# Altium schematic symbol library MCU_Sch.SchLib: 2 symbols
Pins are listed as number, name and electrical type; pins without a type are passive.

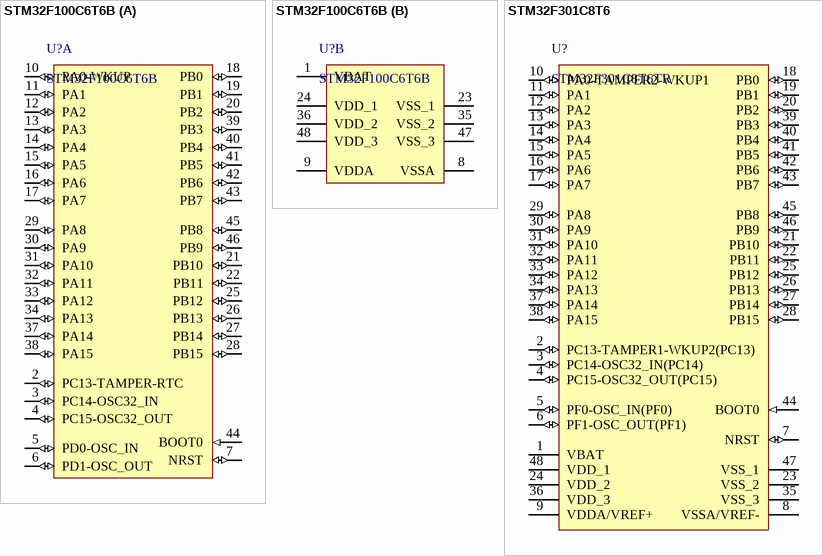
[diagram p0: symbols STM32F100C6T6B to STM32F301C8T6]

## STM32F100C6T6B
designator U?
ARM Cortex-M3 32-bit MCU, 32 KB Flash, 4 KB Internal RAM, 37 I/Os, 48-pin LQFP, -40 to 85 degC, Tray; D/A Converter: 2x12-bit (2 Channel); FLASH Size (Prog) (kB): 32; Internal RAM Size (kB): 4; Operating Frequency(F) (Processor speed) (MHz): 24; A/D Converter: 1x12-bit (10 Channel); Supply Voltage(Vcc) min (V): 2; I/Os (High Current): 37; ComponentLink3Description: Package Specification; PackageReference: LQFP48; ComponentLink2Description: Datasheet; ComponentLink1URL: http://www.st.com/web/en/home.html; ComponentLink3URL: http://www.st.com/st-web-ui/static/active/en/resource/technical/document/datasheet/DM00058181.pdf; Packing: Tray; ComponentLink2URL: http://www.st.com/st-web-ui/static/active/en/resource/technical/document/datasheet/CD00251732.pdf; Core: ARM Cortex-M3; ComponentLink1Description: Manufacturer URL; PackageDescription: 48-Pin Low Profile Quad Flat Package, 7 x 7 mm Body, 0.5 mm Pitch; Mounting Technology: Surface Mount; PartNumber: STM32F100C6T6B; PackageVersion: Rev. 6, 06/2013; DatasheetVersion: Rev. 7
footprint STM-LQFP48_H (QFP, 48-Leads, Body 7x7mm, Pitch 0.5mm, IPC Low Density)
footprint STM-LQFP48_L (QFP, 48-Leads, Body 7x7mm, Pitch 0.5mm, IPC High Density)
footprint STM-LQFP48_M (QFP, 48-Leads, Body 7x7mm, Pitch 0.5mm, IPC Medium Density)
footprint STM-LQFP48_N (QFP, 48-Leads, Body 7x7mm, Pitch 0.5mm, IPC Medium Density)
part A pins: 2 PC13-TAMPER-RTC (io) "PC13-TAMPER-RTC/PC13/TAMPER-RTC", 3 PC14-OSC32_IN (io) "PC14-OSC32_IN/PC14/OSC32_IN", 4 PC15-OSC32_OUT (io) "PC15-OSC32_OUT/PC15/OSC32_OUT", 5 PD0-OSC_IN (io) "PD0/OSC_IN", 6 PD1-OSC_OUT (io) "PD1/OSC_OUT", 7 NRST (io), 10 PA0-WKUP (io) "PA0-WKUP/PA0/WKUP/USART2_CTS/ADC1_IN0/TIM2_CH1_ETR", 11 PA1 (io) "PA1/USART2_RTS/ADC1_IN1/TIM2_CH2", 12 PA2 (io) "PA2/USART2_TX/ADC1_IN2/TIM2_CH3/TIM15_CH1", 13 PA3 (io) "PA3/USART2_RX/ADC1_IN3/TIM2_CH4/TIM15_CH2", 14 PA4 (io) "PA4/SPI1_NSS/ADC1_IN4/USART2_CK/DAC1_OUT", 15 PA5 (io) "PA5/SPI1_SCK/ADC1_IN5/DAC2_OUT", 16 PA6 (io) "PA6/SPI1_MISO/ADC1_IN6/TIM3_CH1/TIM1_BKIN/TIM16_CH1", 17 PA7 (io) "PA7/SPI1_MOSI/ADC1_IN7/TIM3_CH2/TIM1_CH1N/TIM17_CH1", 18 PB0 (io) "PB0/ADC1_IN8/TIM3_CH3/TIM1_CH2N", 19 PB1 (io) "PB1/ADC1_IN9/TIM3_CH4/TIM1_CH3N", 20 PB2 (io) "PB2/BOOT1", 21 PB10 (io) "PB10/I2C2_SCL/USART3_TX/TIM2_CH3/HDMI_CEC", 22 PB11 (io) "PB11/I2C2_SDA/USART3_RX/TIM2_CH4", 25 PB12 (io) "PB12/SPI2_NSS/I2C2_SMBA/TIM1_BKIN/USART3_CK", 26 PB13 (io) "PB13/SPI2_SCK/TIM1_CH1N/USART3_CTS", 27 PB14 (io) "PB14/SPI2_MISO/TIM1_CH2N/USART3_RTS/TIM15_CH1", 28 PB15 (io) "PB15/SPI2_MOSI/TIM1_CH3N/TIM15_CH1N/TIM15_CH2", 29 PA8 (io) "PA8/USART1_CK/MCO/TIM1_CH1", 30 PA9 (io) "PA9/USART1_TX/TIM1_CH2/TIM15_BKIN", 31 PA10 (io) "PA10/USART1_RX/TIM1_CH3/TIM17_BKIN", 32 PA11 (io) "PA11/USART1_CTS/TIM1_CH4", 33 PA12 (io) "PA12/USART1_RTS/TIM1_ETR", 34 PA13 (io) "PA13/JTMS-SWDIO", 37 PA14 (io) "PA14/JTCK/SWCLK", 38 PA15 (io) "PA15/JTDI/TIM2_CH1_ETR/SPI1_NSS", 39 PB3 (io) "PB3/JTDO/TIM2_CH2/TRACESWO/SPI1_SCK", 40 PB4 (io) "PB4/NJTRST/TIM3_CH1/SPI1_MISO", 41 PB5 (io) "PB5/I2C1_SMBA/TIM16_BKIN/TIM3_CH2/SPI1_MOSI", 42 PB6 (io) "PB6/I2C1_SCL/TIM4_CH1/TIM16_CH1N/USART1_TX", 43 PB7 (io) "PB7/I2C1_SDA/TIM17_CH1N/TIM4_CH2/USART1_RX", 44 BOOT0 (in), 45 PB8 (io) "PB8/TIM4_CH3/TIM16_CH1/CEC/I2C1_SCL", 46 PB9 (io) "PB9/TIM4_CH4/TIM17_CH1/I2C1_SDA"
part B pins: 1 VBAT (power), 8 VSSA (power), 9 VDDA (power), 23 VSS_1 (power), 24 VDD_1 (power), 35 VSS_2 (power), 36 VDD_2 (power), 47 VSS_3 (power), 48 VDD_3 (power)

## STM32F301C8T6
designator U?, comment STM32F301C8T6TR
ARM Cortex-M4 32-bit MCU, 64 KB Flash, 16 KB Internal RAM, 37 I/Os, 48-Pin LQFP, -40 to 85 degC, Tape and Reel; FLASH Size (Prog) (kB): 64; Internal RAM Size (kB): 16; D/A Converter: 1; Operating Frequency(F) (Processor speed) (MHz): 72; Supply Voltage(Vcc) min (V): 2; I/Os (High Current): 37; ComponentLink2Description: Datasheet; ComponentLink1URL: http://www.st.com/; Package Description: 48-Pin Low Profile Quad Flat Package, Body 7 x 7 mm, Pitch 0.5 mm; ComponentLink1Description: Manufacturer URL; ComponentLink2URL: http://www.st.com/st-web-ui/static/active/en/resource/technical/document/datasheet/DM00093332.pdf; Mounting Technology: Surface Mount; Packing: Tape and Reel; DatasheetVersion: Rev. 6; Package Reference: LQFP48; Core: ARM Cortex-M4
footprint STM-LQFP48_H (QFP, 48-Leads, Body 7x7mm, Pitch 0.5mm, IPC Low Density)
footprint STM-LQFP48_L (QFP, 48-Leads, Body 7x7mm, Pitch 0.5mm, IPC High Density)
footprint STM-LQFP48_M (QFP, 48-Leads, Body 7x7mm, Pitch 0.5mm, IPC Medium Density)
pins: 1 VBAT (power) "Backup power supply", 2 PC13-TAMPER1-WKUP2(PC13) (io) "PC13-TAMPER1-WKUP2(PC13)/TIM1_CH1N/WKUP2,RTC_TAMP1,RTC_TS,RTC_OUT", 3 PC14-OSC32_IN(PC14) (io) "PC14/OSC32_IN", 4 PC15-OSC32_OUT(PC15) (io) "PC15/OSC32_OUT", 5 PF0-OSC_IN(PF0) (io) "PF0/I2C2_SDA,SPI2_NSS/I2S2_WS,TIM1_CH3N/OSC_IN", 6 PF1-OSC_OUT(PF1) (io) "PF1/I2C2_SCL,SPI2_SCK/I2S2_CK/OSC_OUT", 7 NRST (io) "Device reset input/internal reset output (active low)", 8 VSSA/VREF- (power) "Analog ground/Negative reference voltage", 9 VDDA/VREF+ (power) "Analog power supply/Positive reference voltage", 10 PA0-TAMPER2-WKUP1 (io) "PA0-TAMPER2-WKUP1/TIM2_CH1/TIM2_ETR,TSC_G1_IO1,USART2_CTS,EVENTOUT/ADC1_IN1,RTC_TAMP2,WKUP1", 11 PA1 (io) "PA1/RTC_REFIN,TIM2_CH2,TSC_G1_IO2,USART2_RTS_DE,TIM15_CH1N,EVENTOUT/ADC1_IN2", 12 PA2 (io) "PA2/TIM2_CH3,TSC_G1_IO3,USART2_TX,COMP2_OUT,TIM15_CH1,EVENTOUT/ADC1_IN3,COMP2_INM", 13 PA3 (io) "PA3/TIM2_CH4,TSC_G1_IO4,USART2_RX,TIM15_CH2,EVENTOUT/ADC1_IN4", 14 PA4 (io) "PA4/TSC_G2_IO1,SPI3_NSS/I2S3_WS,USART2_CK,EVENTOUT/ADC1_IN5,DAC1_OUT1,COMP2_INM,COMP4_INM,COMP6_INM", 15 PA5 (io) "PA5/TIM2_CH1/TIM2_ETR,TSC_G2_IO2,EVENTOUT/OPAMP2_VINM", 16 PA6 (io) "PA6/TIM16_CH1,TSC_G2_IO3,TIM1_BKIN,EVENTOUT/ADC1_IN10,OPAMP2_VOUT", 17 PA7 (io) "PA7/TIM17_CH1,TSC_G2_IO4,TIM1_CH1N,EVENTOUT/ADC1_IN15,COMP2_INP,OPAMP2_VINP", 18 PB0 (io) "PB0/TSC_G3_IO2,TIM1_CH2N,EVENTOUT/ADC1_IN11,COMP4_INP,OPAMP2_VINP", 19 PB1 (io) "PB1/TSC_G3_IO3,TIM1_CH3N,COMP4_OUT,EVENTOUT/ADC1_IN12", 20 PB2 (io) "PB2/TSC_G3_IO4,EVENTOUT/COMP4_INM", 21 PB10 (io) "PB10/TIM2_CH3,TSC_SYNC,USART3_TX,EVENTOUT", 22 PB11 (io) "PB11/TIM2_CH4,TSC_G6_IO1,USART3_RX,EVENTOUT/ADC1_IN14,COMP6_INP", 23 VSS_2 (power) "Digital ground", 24 VDD_2 (power) "Digital power supply", 25 PB12 (io) "PB12/TSC_G6_IO2,I2C2_SMBAL,SPI2_NSS/I2S2_WS,TIM1_BKIN,USART3_CK,EVENTOUT", 26 PB13 (io) "PB13/TSC_G6_IO3,SPI2_SCK/I2S2_CK,TIM1_CH1N,USART3_CTS,EVENTOUT/ADC1_IN13", 27 PB14 (io) "PB14/TIM15_CH1,TSC_G6_IO4,SPI2_MISO/I2S2EXT_SD,TIM1_CH2N,USART3_RTS_DE,EVENTOUT/OPAMP2_VINP", 28 PB15 (io) "PB15/RTC_REFIN,TIM15_CH2,TIM15_CH1N,TIM1_CH3N,SPI2_MOSI/I2S2_SD,EVENTOUT/COMP6_INM", 29 PA8 (io) "PA8/MCO,I2C3_SCL,I2C2_SMBAL,I2S2_MCK,TIM1_CH1,USART1_CK,EVENTOUT", 30 PA9 (io) "PA9/I2C3_SMBAL,TSC_G4_IO1,I2C2_SCL,I2S3_MCK,TIM1_CH2,USART1_TX,TIM15_BKIN,TIM2_CH3,EVENTOUT", 31 PA10 (io) "PA10/TIM17_BKIN,TSC_G4_IO2,I2C2_SDA,SPI2_MISO/I2S2EXT_SD,TIM1_CH3,USART1_RX,COMP6_OUT,TIM2_CH4,EVENTOUT", 32 PA11 (io) "PA11/SPI2_MOSI/I2S2_SD,TIM1_CH1N,USART1_CTS,TIM1_CH4,TIM1_BKIN2,EVENTOUT", 33 PA12 (io) "PA12/TIM16_CH1,I2SCKIN,TIM1_CH2N,USART1_RTS_DE,COMP2_OUT,TIM1_ETR,EVENTOUT", 34 PA13 (io) "PA13/SWDIO,TIM16_CH1N,TSC_G4_IO3,IR-OUT,USART3_CTS,EVENTOUT", 35 VSS_3 (power) "Digital ground", 36 VDD_3 (power) "Digital power supply", 37 PA14 (io) "PA14/SWCLK-JTCK,TSC_G4_IO4,I2C1_SDA,TIM1_BKIN,USART2_TX,EVENTOUT", 38 PA15 (io) "PA15/JTDI,TIM2_CH1/TIM2_ETR,TSC_SYNC,I2C1_SCL,SPI3_NSS/I2S3_WS,USART2_RX,TIM1_BKIN,EVENTOUT", 39 PB3 (io) "PB3/JTDO-TRACESWO,TIM2_CH2,TSC_G5_IO1,SPI3_SCK/I2S3_CK,USART2_TX,EVENTOUT", 40 PB4 (io) "PB4/JTRST,TIM16_CH1,TSC_G5_IO2,SPI3_MISO/I2S3EXT_SD,USART2_RX,TIM17_BKIN,EVENTOUT", 41 PB5 (io) "PB5/TIM16_BKIN,I2C1_SMBAI,SPI3_MOSI/I2S3_SD,USART2_CK,I2C3_SDA,TIM17_CH1,EVENTOUT", 42 PB6 (io) "PB6/TIM16_CH1N,TSC_G5_IO3,I2C1_SCL,USART1_TX,EVENTOUT", 43 PB7 (io) "PB7/TIM17_CH1N,TSC_G5_IO4,I2C1_SDA,USART1_RX,EVENTOUT", 44 BOOT0 (in) "Boot memory selection", 45 PB8 (io) "PB8/TIM16_CH1,TSC_SYNC,I2C1_SCL,USART3_RX,TIM1_BKIN,EVENTOUT", 46 PB9 (io) "PB9/TIM17_CH1,I2C1_SDA,IR-OUT,USART3_TX,COMP2_OUT,EVENTOUT", 47 VSS_1 (power) "Digital ground", 48 VDD_1 (power) "Digital power supply"